# EAGLE library part UWQ-12/20-T48NTB-C (library New Power Board Library)
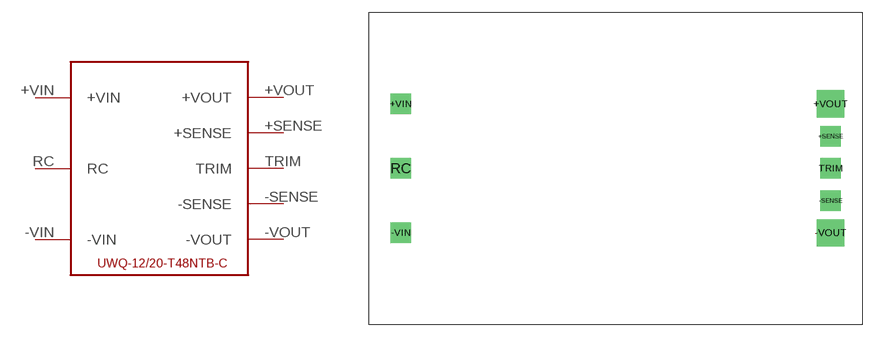
[diagram p1: symbol with the pads of UWQ-12/20-T48; footprint UWQ-12/20-T48]

Designator prefix U

## UWQ-12/20-T48NTB-C  [UWQ-12/20-T48]
+SENSE  +SENSE
+VIN  +VIN  pwr
+VOUT  +VOUT  pwr
-SENSE  -SENSE
-VIN  -VIN  pwr
-VOUT  -VOUT  pwr
RC  RC
TRIM  TRIM

## Footprint UWQ-12/20-T48 (pad centres in mm)
drill 1.6 square: +SENSE 25.4,3.81; +VIN -25.4,7.62; -SENSE 25.4,-3.81; -VIN -25.4,-7.62; RC -25.4,0; TRIM 25.4,0
drill 2.2 square: +VOUT 25.4,7.62; -VOUT 25.4,-7.62